# Altium footprint library WLPN303015.PcbLib: 1 footprints
Each footprint in its own frame and in the unit in brackets; x right, y up, seen from the top. Pads: shape width x height; smd on the part's side, far side on the other; paste and mask are expansions set on the pad; w line width, h text height; cw(c..) or ccw(c..) is an arc to the next point about the centre after c.
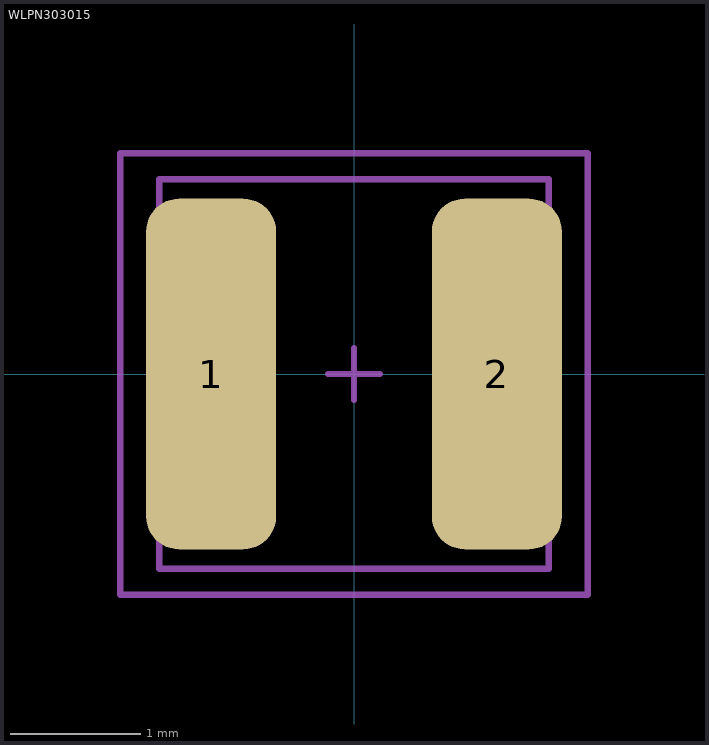
[diagram p0: the footprint, top view; thin cyan lines are the x and y axes]

## WLPN303015 [mm]
pads (2):
  rrect50% 1x2.7 smd mask+0.05: 1(-1.1,0) 2(1.1,0)
Top Assembly:
  lines w0.05: -0.2,0 0.2,0 ; 0,-0.2 0,0.2 ; -1.5,-1.5 -1.5,1.5 1.5,1.5 1.5,-1.5 -1.5,-1.5
Top Courtyard:
  lines w0.05: -1.8,-1.7 -1.8,1.7 1.8,1.7 1.8,-1.7 -1.8,-1.7
3D body "NR3015.step": height 1.5, standoff 0, extent -1.5,-1.5 1.5,1.5